# Altium schematic symbol library LTM8045IYPBF.SchLib: 2 symbols
Pins are listed as number, name and electrical type; pins without a type are passive.

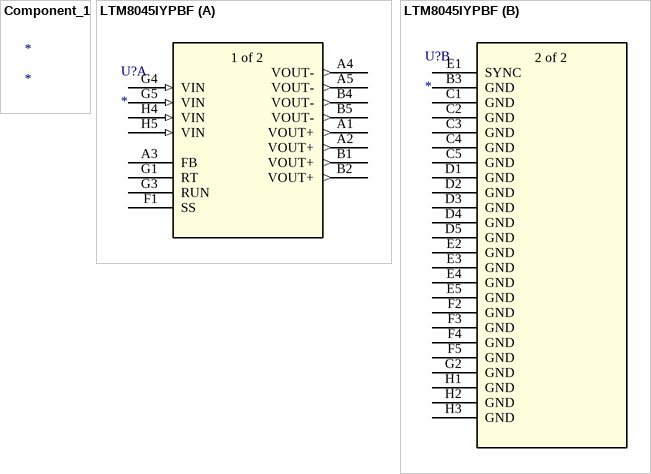
[diagram p0: symbols Component_1 to LTM8045IYPBF]

## Component_1
designator *

## LTM8045IYPBF
designator U?
No Description Available; Mfr_Name: Analog Devices Inc; RefDes: RefDes; Type: Type
footprint BGA-40_11P25X6P25_LIT
part A pins: A1 VOUT+ (out), A2 VOUT+ (out), A3 FB, A4 VOUT- (out), A5 VOUT- (out), B1 VOUT+ (out), B2 VOUT+ (out), B4 VOUT- (out), B5 VOUT- (out), F1 SS, G1 RT, G3 RUN, G4 VIN (in), G5 VIN (in), H4 VIN (in), H5 VIN (in)
part B pins: B3 GND (power), C1 GND (power), C2 GND (power), C3 GND (power), C4 GND (power), C5 GND (power), D1 GND (power), D2 GND (power), D3 GND (power), D4 GND (power), D5 GND (power), E1 SYNC (power), E2 GND (power), E3 GND (power), E4 GND (power), E5 GND (power), F2 GND (power), F3 GND (power), F4 GND (power), F5 GND (power), G2 GND (power), H1 GND (power), H2 GND (power), H3 GND (power)
part A text: 1 of 2
part B text: 2 of 2